# EAGLE library part 68712814022 (library Eagle_FPC_CONNECTOR_AND_FFC_CAB (rev18c))
WR-FPC 0.5mm SMT ZIF Horizontal Top Contact, 28 Pins=>Code : Con_FPC_ZIF_0.50_68712814022 <http://katalog.we-online.de/media/images/eican/Con_FPC_ZIF_0.50_6871xx14022_pf2.jpg> Details see: http://katalog.we-online.de/en/em/687_1xx_140_22 Created 2014-07-09, Karrer Zheng 2014 (C) Würth Elektronik
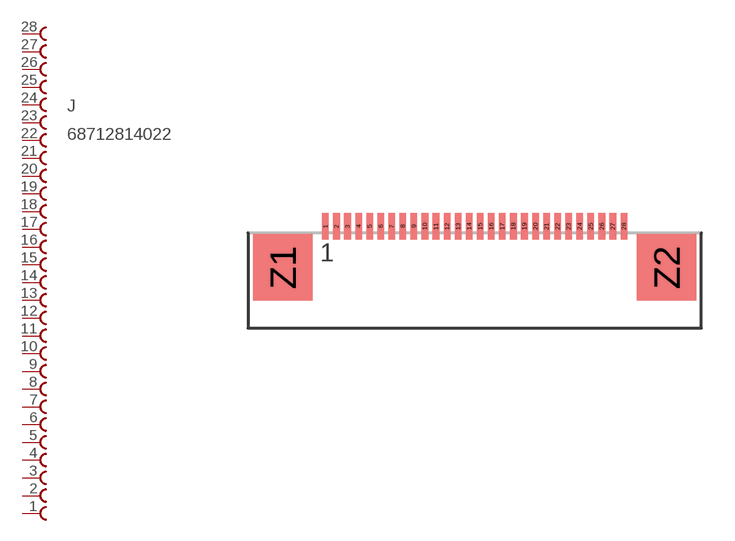
[diagram p29: symbol with the pads of 68712814022; footprint 68712814022]

Designator prefix J

## 68712814022  [68712814022]
1  28  pas
2  27  pas
3  26  pas
4  25  pas
5  24  pas
6  23  pas
7  22  pas
8  21  pas
9  20  pas
10  19  pas
11  18  pas
12  17  pas
13  16  pas
14  15  pas
15  14  pas
16  13  pas
17  12  pas
18  11  pas
19  10  pas
20  9  pas
21  8  pas
22  7  pas
23  6  pas
24  5  pas
25  4  pas
26  3  pas
27  2  pas
28  1  pas

## Footprint 68712814022 (pad centres in mm)
WR-FPC 0.5mm SMT ZIF Horizontal Top Contact, 28 Pins
smd 0.3 x 1.2: 1 -6.75,1.86; 2 -6.25,1.86; 3 -5.75,1.86; 4 -5.25,1.86; 5 -4.75,1.86; 6 -4.25,1.86; 7 -3.75,1.86; 8 -3.25,1.86; 9 -2.75,1.86; 10 -2.25,1.86; 11 -1.75,1.86; 12 -1.25,1.86; 13 -0.75,1.86; 14 -0.25,1.86; 15 0.25,1.86; 16 0.75,1.86; 17 1.25,1.86; 18 1.75,1.86; 19 2.25,1.86; 20 2.75,1.86; 21 3.25,1.86; 22 3.75,1.86; 23 4.25,1.86; 24 4.75,1.86; 25 5.25,1.86; 26 5.75,1.86; 27 6.25,1.86; 28 6.75,1.86
smd 2.7 x 3: Z1 -8.68,0; Z2 8.68,0